# Altium schematic symbol library HEADER_1x3.Schlib: 1 symbol
Pins are listed as number, name and electrical type; pins without a type are passive.

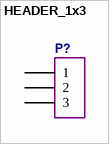
[diagram p0: symbol HEADER_1x3]

## HEADER_1x3
designator P?  (value not drawn)
Header, 3-Pin
pins: 1, 2, 3